# EAGLE library part EL4083* (library mita-akiba)
Current-Mode Four Quadrant Multiplier GBW=200MHz 1500 yens @ Akizukidenshi
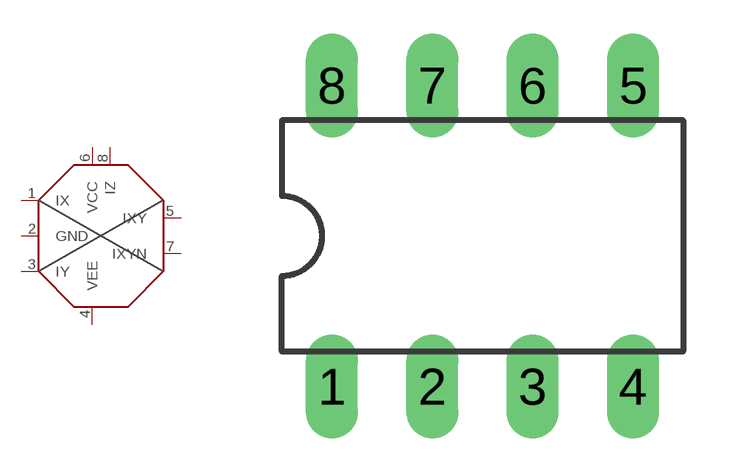
[diagram p56: symbol with the pads of DIL08; footprint DIL08]

Designator prefix -

## EL4083  [DIL08]
1  IX
2  GND
3  IY
4  VEE
5  IXY
6  VCC
7  IXYN
8  IZ

## Footprint DIL08 (pad centres in mm)
Dual In Line Package
drill 0.813 long: 1 -3.81,-3.81; 2 -1.27,-3.81; 3 1.27,-3.81; 4 3.81,-3.81; 5 3.81,3.81; 6 1.27,3.81; 7 -1.27,3.81; 8 -3.81,3.81